# EAGLE library part CP2102 (library sensor)
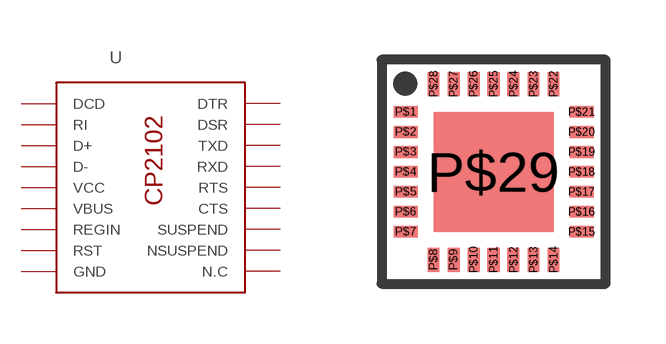
[diagram p2: symbol with the pads of QFN28; footprint QFN28]

Designator prefix U

## CP2102  [QFN28]
P$1  DCD
P$2  RI
P$3  GND  sup
P$4  D+
P$5  D-
P$6  VCC  pwr
P$7  REGIN  pwr
P$8  VBUS  pwr
P$9  RST
P$10  N.C  nc
P$11  NSUSPEND
P$12  SUSPEND
P$13  N.C  nc
P$14  N.C  nc
P$15  N.C  nc
P$16  N.C  nc
P$17  N.C  nc
P$18  N.C  nc
P$19  N.C  nc
P$20  N.C  nc
P$21  N.C  nc
P$22  N.C  nc
P$23  CTS
P$24  RTS
P$25  RXD
P$26  TXD
P$27  DSR
P$28  DTR
P$29  GND  sup

## Footprint QFN28 (pad centres in mm)
smd 0.6 x 0.3: P$1 -1.7,0; P$2 -1.7,-0.5; P$3 -1.7,-1; P$4 -1.7,-1.5; P$5 -1.7,-2; P$6 -1.7,-2.5; P$7 -1.7,-3; P$15 2.7,-3; P$16 2.7,-2.5; P$17 2.7,-2; P$18 2.7,-1.5; P$19 2.7,-1; P$20 2.7,-0.5; P$21 2.7,0
smd 0.3 x 0.6: P$8 -1,-3.7; P$9 -0.5,-3.7; P$10 0,-3.7; P$11 0.5,-3.7; P$12 1,-3.7; P$13 1.5,-3.7; P$14 2,-3.7; P$22 2,0.7; P$23 1.5,0.7; P$24 1,0.7; P$25 0.5,0.7; P$26 0,0.7; P$27 -0.5,0.7; P$28 -1,0.7
smd 3 x 3: P$29 0.5,-1.5